# EAGLE library part FPC-46WAY (library pimoroni-fpc)
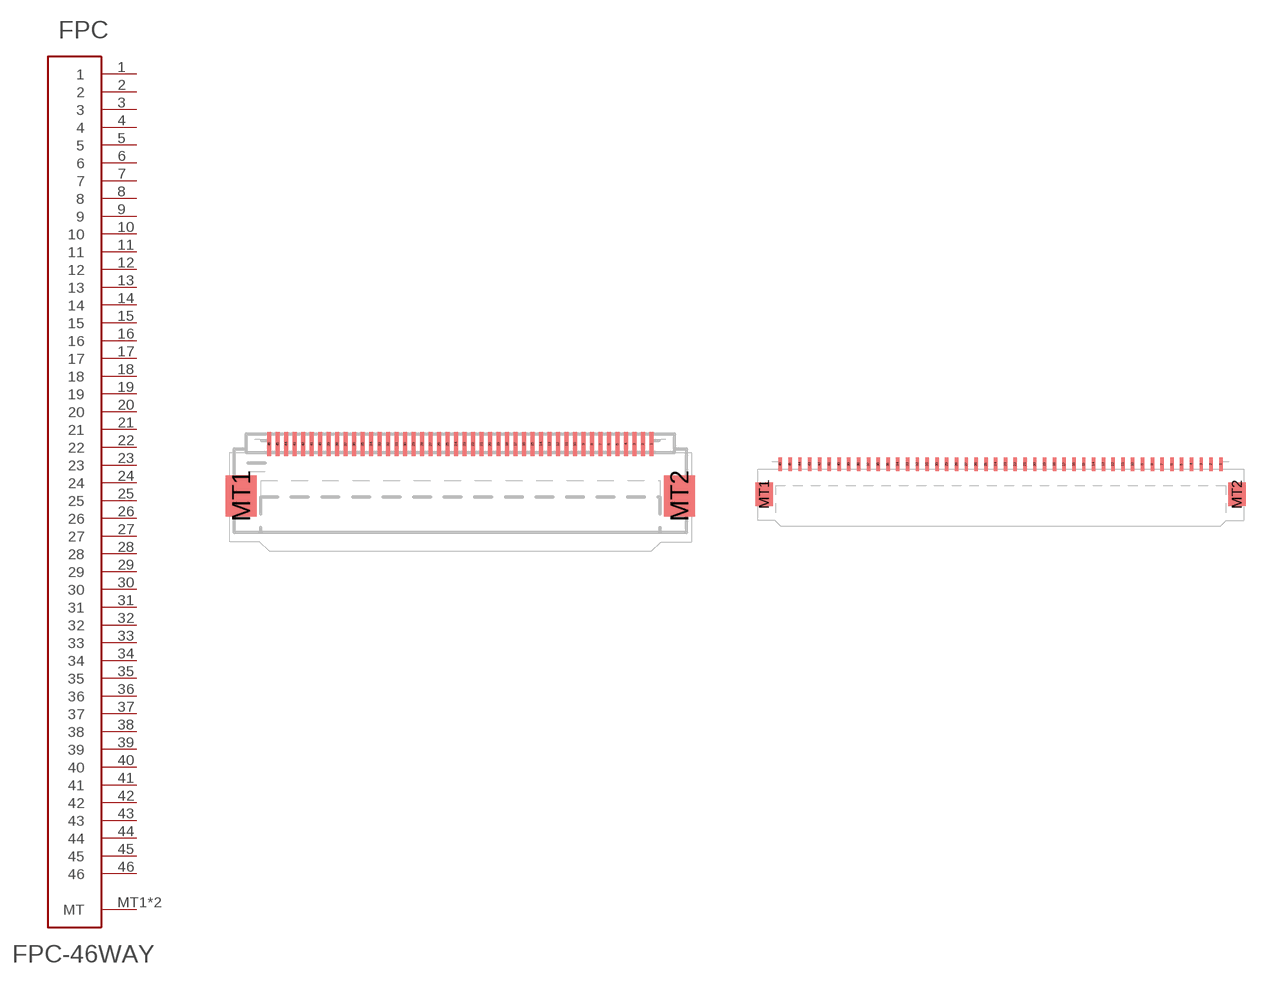
[diagram p41: symbol with the pads of FPC-0.5MM-46WAY; footprints FPC-0.5MM-46WAY, FPC-1.0MM-46WAY]

Designator prefix FPC

## FPC-46WAY0.5  [FPC-0.5MM-46WAY]
1  1
2  2
3  3
4  4
5  5
6  6
7  7
8  8
9  9
10  10
11  11
12  12
13  13
14  14
15  15
16  16
17  17
18  18
19  19
20  20
21  21
22  22
23  23
24  24
25  25
26  26
27  27
28  28
29  29
30  30
31  31
32  32
33  33
34  34
35  35
36  36
37  37
38  38
39  39
40  40
41  41
42  42
43  43
44  44
45  45
46  46
MT1  MT
MT2  MT

## FPC-46WAY1.0  [FPC-1.0MM-46WAY]
Pads as for FPC-0.5MM-46WAY

## Footprint FPC-0.5MM-46WAY (pad centres in mm)
smd 0.25 x 1.4: 1 11.25,0.7; 2 10.75,0.7; 3 10.25,0.7; 4 9.75,0.7; 5 9.25,0.7; 6 8.75,0.7; 7 8.25,0.7; 8 7.75,0.7; 9 7.25,0.7; 10 6.75,0.7; 11 6.25,0.7; 12 5.75,0.7; 13 5.25,0.7; 14 4.75,0.7; 15 4.25,0.7; 16 3.75,0.7; 17 3.25,0.7; 18 2.75,0.7; 19 2.25,0.7; 20 1.75,0.7; 21 1.25,0.7; 22 0.75,0.7; 23 0.25,0.7; 24 -0.25,0.7; 25 -0.75,0.7; 26 -1.25,0.7; 27 -1.75,0.7; 28 -2.25,0.7; 29 -2.75,0.7; 30 -3.25,0.7; 31 -3.75,0.7; 32 -4.25,0.7; 33 -4.75,0.7; 34 -5.25,0.7; 35 -5.75,0.7; 36 -6.25,0.7; 37 -6.75,0.7; 38 -7.25,0.7; 39 -7.75,0.7; 40 -8.25,0.7; 41 -8.75,0.7; 42 -9.25,0.7; 43 -9.75,0.7; 44 -10.25,0.7; 45 -10.75,0.7; 46 -11.25,0.7
smd 1.8 x 2.4: MT1 -12.9,-2.35; MT2 12.9,-2.35

## Footprint FPC-1.0MM-46WAY (pad centres in mm)
smd 0.35 x 1.4: 1 22.5,0.7; 2 21.5,0.7; 3 20.5,0.7; 4 19.5,0.7; 5 18.5,0.7; 6 17.5,0.7; 7 16.5,0.7; 8 15.5,0.7; 9 14.5,0.7; 10 13.5,0.7; 11 12.5,0.7; 12 11.5,0.7; 13 10.5,0.7; 14 9.5,0.7; 15 8.5,0.7; 16 7.5,0.7; 17 6.5,0.7; 18 5.5,0.7; 19 4.5,0.7; 20 3.5,0.7; 21 2.5,0.7; 22 1.5,0.7; 23 0.5,0.7; 24 -0.5,0.7; 25 -1.5,0.7; 26 -2.5,0.7; 27 -3.5,0.7; 28 -4.5,0.7; 29 -5.5,0.7; 30 -6.5,0.7; 31 -7.5,0.7; 32 -8.5,0.7; 33 -9.5,0.7; 34 -10.5,0.7; 35 -11.5,0.7; 36 -12.5,0.7; 37 -13.5,0.7; 38 -14.5,0.7; 39 -15.5,0.7; 40 -16.5,0.7; 41 -17.5,0.7; 42 -18.5,0.7; 43 -19.5,0.7; 44 -20.5,0.7; 45 -21.5,0.7; 46 -22.5,0.7
smd 1.8 x 2.4: MT1 -24.15,-2.35; MT2 24.15,-2.35